# Altium schematic symbol library Schlib1.SchLib: 1 symbol
Pins are listed as number, name and electrical type; pins without a type are passive.

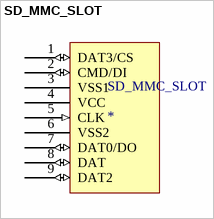
[diagram p0: symbol SD_MMC_SLOT]

## SD_MMC_SLOT
designator SD_MMC_SLOT
pins: 1 DAT3/CS (io), 2 CMD/DI (io), 3 VSS1 (power), 4 VCC (power), 5 CLK (in), 6 VSS2 (power), 7 DAT0/DO (io), 8 DAT (io), 9 DAT2 (io)
1 alternate drawing of the same symbol